# Altium schematic symbol library 1278ER1T.Schlib: 1 symbol
Pins are listed as number, name and electrical type; pins without a type are passive.

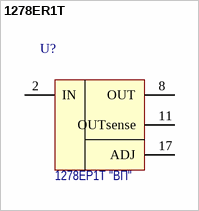
[diagram p0: symbol 1278ER1T]

## 1278ER1T
designator U?, comment Наименование: 1278ЕР1Т "ВП"  (hidden comment: 1278ER1T VP)
Low-drop linear regulator; Назначение: Линейный регулятор; Потребление, Вт: 0,100; ComponentLink1Description: DataSheet; ComponentLink1URL: https://www.radiant.su/files/images/Kremhij-marketing/1278EP1T.pdf
footprint 4116.4-3_offcut
pins: 2 IN, 8 OUT, 11 OUTsense, 17 ADJ